# Altium schematic symbol library te-conn-2-1926730-5.Schlib: 1 symbol
Pins are listed as number, name and electrical type; pins without a type are passive.

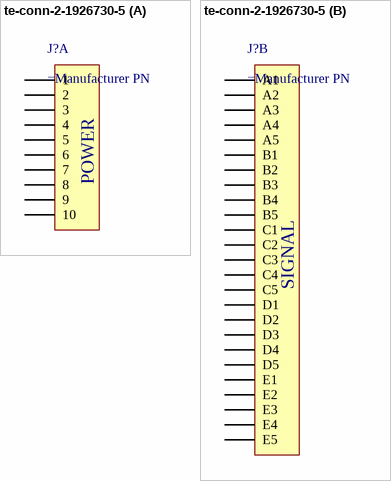
[diagram p0: symbol te-conn-2-1926730-5]

## te-conn-2-1926730-5
designator J?
part A pins: 1, 2, 3, 4, 5, 6, 7, 8, 9, 10
part B pins: A1, A2, A3, A4, A5, B1, B2, B3, B4, B5, C1, C2, C3, C4, C5, D1, D2, D3, D4, D5, E1, E2, E3, E4, E5
part A text: POWER
part B text: SIGNAL